# EAGLE library part AD8465 (library analog-devices)
LVDS Comparator Rail-to-Rail, Very Fast, 2.5 V to 5.5 V, Single-Supply
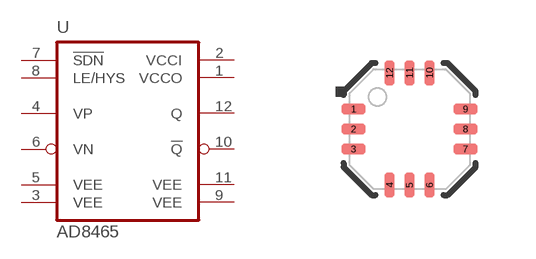
[diagram p46: symbol with the pads of LFCSP12; footprint LFCSP12]

Designator prefix U

## AD8465  [LFCSP12]
1  VCCO  pwr
2  VCCI  pwr
3  VEE  pwr
4  VP  in
5  VEE  pwr
6  VN  in
7  !SDN!  in
8  LE/HYS  pas
9  VEE  pwr
10  !Q!  out
11  VEE  pwr
12  Q  out

## Footprint LFCSP12 (pad centres in mm)
12-Lead Lead Frame Chip Scale Package LFCSP_VQ
smd 0.6 x 0.25: 1 -1.4,0.5; 2 -1.4,0; 3 -1.4,-0.5; 7 1.4,-0.5; 8 1.4,0; 9 1.4,0.5
smd 0.25 x 0.6: 4 -0.5,-1.4; 5 0,-1.4; 6 0.5,-1.4; 10 0.5,1.4; 11 0,1.4; 12 -0.5,1.4